# EAGLE library part QT60168 (library easyset)
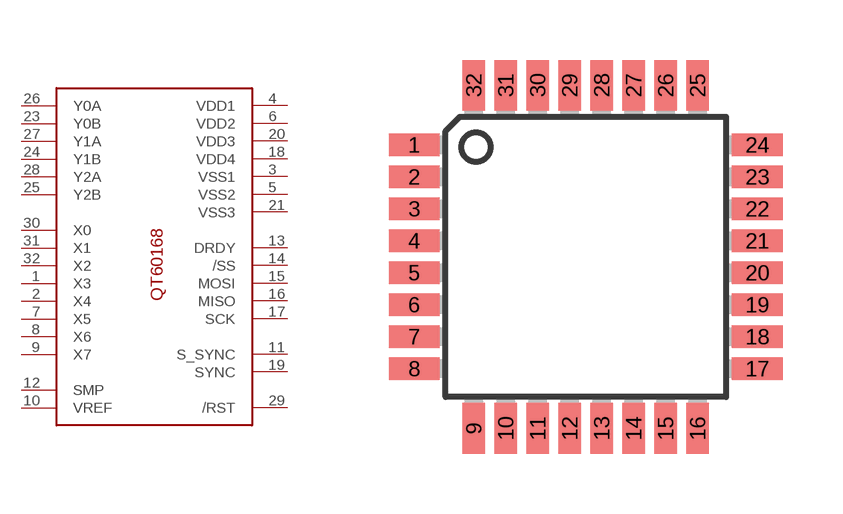
[diagram p1: symbol with the pads of TQFP32-08; footprint TQFP32-08]

Designator prefix -

## QT60168  [TQFP32-08]
1  X3
2  X4
3  VSS1
4  VDD1
5  VSS2
6  VDD2
7  X5
8  X6
9  X7
10  VREF
11  S_SYNC
12  SMP
13  DRDY
14  /SS
15  MOSI
16  MISO
17  SCK
18  VDD4
19  SYNC
20  VDD3
21  VSS3
23  Y0B
24  Y1B
25  Y2B
26  Y0A
27  Y1A
28  Y2A
29  /RST
30  X0
31  X1
32  X2

## Footprint TQFP32-08 (pad centres in mm)
Thin Plasic Quad Flat Package Grid 0.8 mm
smd 1.27 x 0.559: 1 -4.293,2.8; 2 -4.293,2; 3 -4.293,1.2; 4 -4.293,0.4; 5 -4.293,-0.4; 6 -4.293,-1.2; 7 -4.293,-2; 8 -4.293,-2.8; 17 4.293,-2.8; 18 4.293,-2; 19 4.293,-1.2; 20 4.293,-0.4; 21 4.293,0.4; 22 4.293,1.2; 23 4.293,2; 24 4.293,2.8
smd 0.559 x 1.27: 9 -2.8,-4.293; 10 -2,-4.293; 11 -1.2,-4.293; 12 -0.4,-4.293; 13 0.4,-4.293; 14 1.2,-4.293; 15 2,-4.293; 16 2.8,-4.293; 25 2.8,4.293; 26 2,4.293; 27 1.2,4.293; 28 0.4,4.293; 29 -0.4,4.293; 30 -1.2,4.293; 31 -2,4.293; 32 -2.8,4.293